# EAGLE library part CS4270-CZZ (library 2022-04-18_19-23-28_Library)
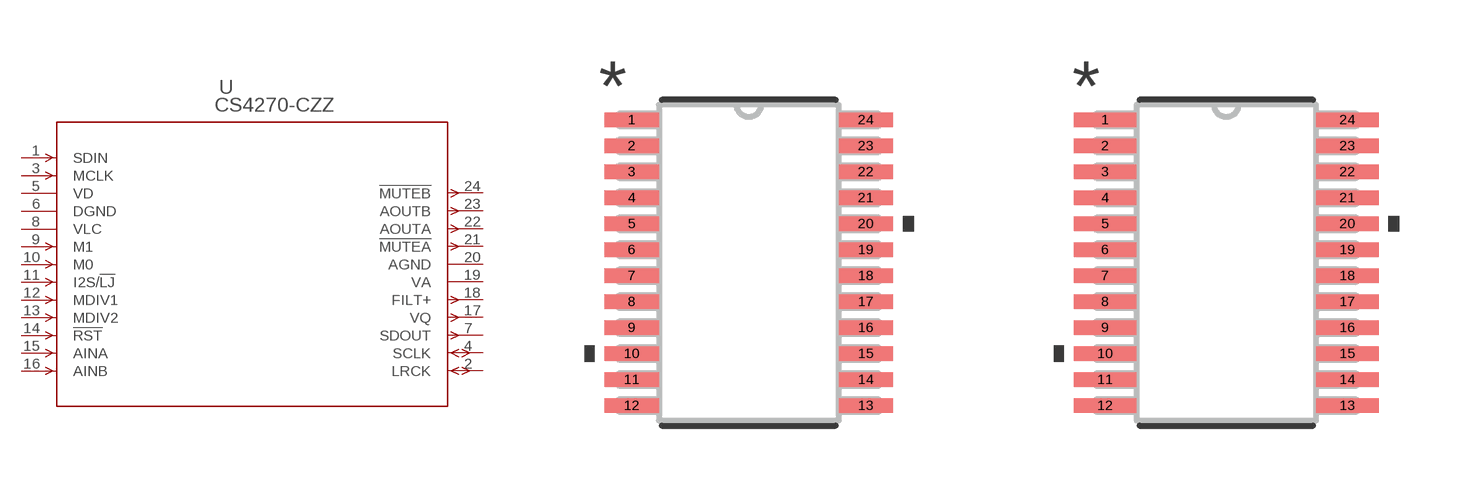
[diagram p0: symbol with the pads of CIR-TSSOP-24; footprints CIR-TSSOP-24, CIR-TSSOP-24-M]

Designator prefix U

## CS4270-CZZCIR-TSSOP-24 (Copyright: Copyright (C) 2022 Ultra Librarian. All rights reserved.; Manufacturer_Part_Number: CS4270-CZZ; Mfr_Name: Cirrus Logic)  [CIR-TSSOP-24]
1  SDIN  in
2  LRCK
3  MCLK  in
4  SCLK
5  VD  pwr
6  DGND  pwr
7  SDOUT  out
8  VLC  pwr
9  M1  in
10  M0  in
11  I2S/!LJ  in
12  MDIV1  in
13  MDIV2  in
14  !RST  in
15  AINA  in
16  AINB  in
17  VQ  out
18  FILT+  out
19  VA  pwr
20  AGND  pwr
21  !MUTEA  out
22  AOUTA  out
23  AOUTB  out
24  !MUTEB  out

## CS4270-CZZCIR-TSSOP-24-M (Copyright: Copyright (C) 2022 Ultra Librarian. All rights reserved.; Manufacturer_Part_Number: CS4270-CZZ; Mfr_Name: Cirrus Logic)  [CIR-TSSOP-24-M]
Pads as for CIR-TSSOP-24

## CS4270-CZZCIR-TSSOP-24-L (Copyright: Copyright (C) 2022 Ultra Librarian. All rights reserved.; Manufacturer_Part_Number: CS4270-CZZ; Mfr_Name: Cirrus Logic)  [CIR-TSSOP-24-L]
Pads as for CIR-TSSOP-24

## Footprint CIR-TSSOP-24 (pad centres in mm)
smd 1.359 x 0.356: 1 -2.927,3.575; 2 -2.927,2.925; 3 -2.927,2.275; 4 -2.927,1.625; 5 -2.927,0.975; 6 -2.927,0.325; 7 -2.927,-0.325; 8 -2.927,-0.975; 9 -2.927,-1.625; 10 -2.927,-2.275; 11 -2.927,-2.925; 12 -2.927,-3.575; 13 2.927,-3.575; 14 2.927,-2.925; 15 2.927,-2.275; 16 2.927,-1.625; 17 2.927,-0.975; 18 2.927,-0.325; 19 2.927,0.325; 20 2.927,0.975; 21 2.927,1.625; 22 2.927,2.275; 23 2.927,2.925; 24 2.927,3.575

## Footprint CIR-TSSOP-24-M (pad centres in mm)
smd 1.562 x 0.356: 1 -3.029,3.575; 2 -3.029,2.925; 3 -3.029,2.275; 4 -3.029,1.625; 5 -3.029,0.975; 6 -3.029,0.325; 7 -3.029,-0.325; 8 -3.029,-0.975; 9 -3.029,-1.625; 10 -3.029,-2.275; 11 -3.029,-2.925; 12 -3.029,-3.575; 13 3.029,-3.575; 14 3.029,-2.925; 15 3.029,-2.275; 16 3.029,-1.625; 17 3.029,-0.975; 18 3.029,-0.325; 19 3.029,0.325; 20 3.029,0.975; 21 3.029,1.625; 22 3.029,2.275; 23 3.029,2.925; 24 3.029,3.575

## Footprint CIR-TSSOP-24-L (pad centres in mm)
smd 1.118 x 0.305: 1 -2.845,3.575; 2 -2.845,2.925; 3 -2.845,2.275; 4 -2.845,1.625; 5 -2.845,0.975; 6 -2.845,0.325; 7 -2.845,-0.325; 8 -2.845,-0.975; 9 -2.845,-1.625; 10 -2.845,-2.275; 11 -2.845,-2.925; 12 -2.845,-3.575; 13 2.845,-3.575; 14 2.845,-2.925; 15 2.845,-2.275; 16 2.845,-1.625; 17 2.845,-0.975; 18 2.845,-0.325; 19 2.845,0.325; 20 2.845,0.975; 21 2.845,1.625; 22 2.845,2.275; 23 2.845,2.925; 24 2.845,3.575